# EAGLE library part RF3025 (library low-gain-radio)
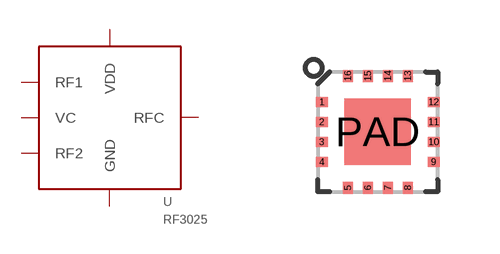
[diagram p10: symbol with the pads of QFN-16_3MMX3MM; footprint QFN-16_3MMX3MM]

Designator prefix U

## RF3025  [QFN-16_3MMX3MM]
1  GND  pwr
2  GND  pwr
3  RFC  pas
4  GND  pwr
5  VDD  pwr
6  GND  pwr
7  GND  pwr
8  RF1  pas
9  GND  pwr
10  GND  pwr
11  GND  pwr
12  GND  pwr
13  RF2  pas
14  GND  pwr
15  GND  pwr
16  VC  in
PAD  GND  pwr

## Footprint QFN-16_3MMX3MM (pad centres in mm)
smd 0.3 x 0.25: 1 -1.4,0.75; 2 -1.4,0.25; 3 -1.4,-0.25; 4 -1.4,-0.75; 9 1.4,-0.75; 10 1.4,-0.25; 11 1.4,0.25; 12 1.4,0.75
smd 0.25 x 0.3: 5 -0.75,-1.4; 6 -0.25,-1.4; 7 0.25,-1.4; 8 0.75,-1.4; 13 0.75,1.4; 14 0.25,1.4; 15 -0.25,1.4; 16 -0.75,1.4
smd 1.65 x 1.65: PAD 0,0